# Altium footprint library Res.PcbLib: 1 footprints
Each footprint in its own frame and in the unit in brackets; x right, y up, seen from the top. Pads: shape width x height; smd on the part's side, far side on the other; paste and mask are expansions set on the pad; w line width, h text height; cw(c..) or ccw(c..) is an arc to the next point about the centre after c.
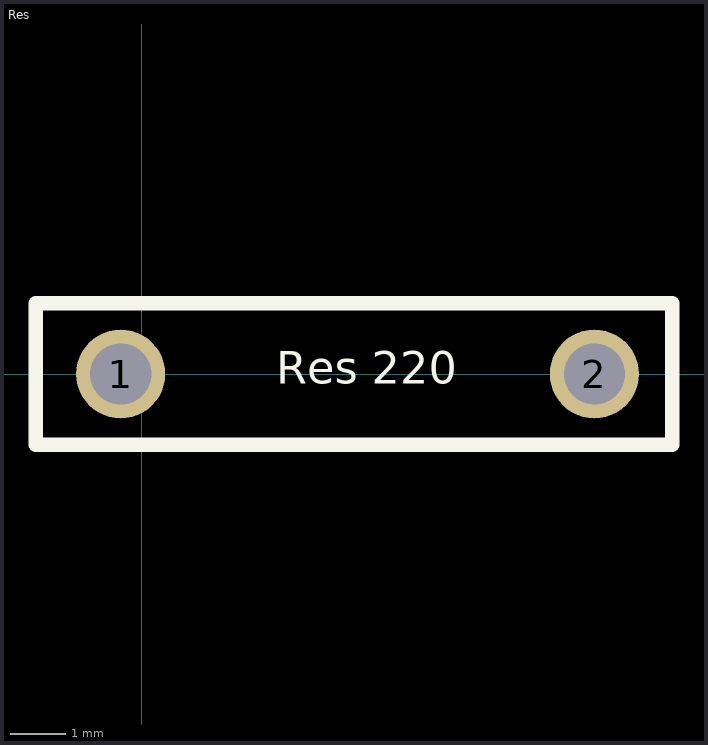
[diagram p0: the footprint, top view; thin cyan lines are the x and y axes]

## Res [mm]
pads (2):
  round 1.6 hole 1.1: 1(-0.381,0) 2(8.128,0)
Top Overlay:
  lines w0.254: -0.635,1.27 9.525,1.27 9.525,-1.27 -1.905,-1.27 -1.905,1.27 -0.127,1.27
  text "Res 220" at 2.413,-0.37 h1
3D body "resistor025W-10R.STEP": height 2.25, standoff -3, extent -0.635,-1.25 8.465,1.25